# Altium schematic symbol library D_TVS_BIDIR.Schlib: 1 symbol
Pins are listed as number, name and electrical type; pins without a type are passive.

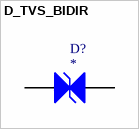
[diagram p0: symbol D_TVS_BIDIR]

## D_TVS_BIDIR
designator D?
Diode, TVS, Bi-directional
pins: 1 A1, 2 A2